# Altium footprint library OSCCC320X250X80L90X100N.PcbLib: 1 footprints
Each footprint in its own frame and in the unit in brackets; x right, y up, seen from the top. Pads: shape width x height; smd on the part's side, far side on the other; paste and mask are expansions set on the pad; w line width, h text height; cw(c..) or ccw(c..) is an arc to the next point about the centre after c.
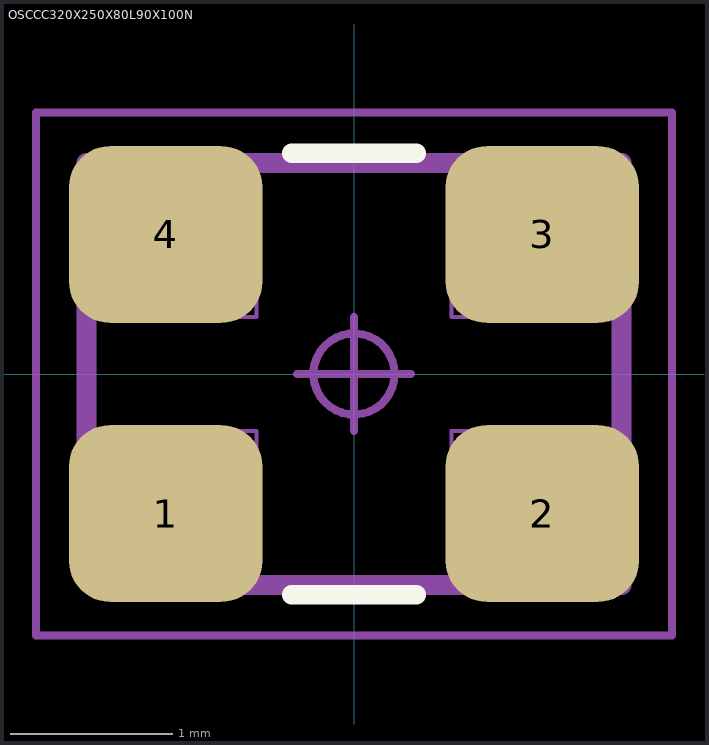
[diagram p0: the footprint, top view; thin cyan lines are the x and y axes]

## OSCCC320X250X80L90X100N [mm] "Oscillator, Corner Concave; 3.20 mm L X 2.50 mm W X 0.80 mm H body"
height 0.8
pads (4):
  rrect46% 1.19x1.09 smd: 1(-1.16,-0.86) 2(1.16,-0.86) 3(1.16,0.86) 4(-1.16,0.86)
Top Overlay:
  lines w0.12: -0.385,-1.36 0.385,-1.36 ; -0.385,1.36 0.385,1.36
Mechanical 3:
  lines w0.12: -1.65,-0.712 -1.65,1.3 1.65,1.3 1.65,-1.3 -1.062,-1.3 -1.65,-0.712
Mechanical 5:
  lines w0.025: -1.6,-1.25 1.6,-1.25 ; -1.6,-1.25 -1.6,1.25 ; -1.6,-1.25 -1.6,-0.35 -0.6,-0.35 -0.6,-1.25 -1.6,-1.25 ; -1.6,1.25 1.6,1.25 ; -1.6,1.25 -0.6,1.25 -0.6,0.35 -1.6,0.35 -1.6,1.25 ; 1.6,-1.25 1.6,1.25 ; 1.6,-1.25 0.6,-1.25 0.6,-0.35 1.6,-0.35 1.6,-1.25 ; 1.6,1.25 1.6,0.35 0.6,0.35 0.6,1.25 1.6,1.25
Mechanical 7:
  circle w0.05: c0,0 r0.25
  lines w0.05: -0.35,0 0.35,0 ; 0,-0.35 0,0.35 ; -1.96,-1.61 1.96,-1.61 1.96,1.61 -1.96,1.61 -1.96,-1.61
Mechanical 9:
  text "'.Designator'" at -5.359,-0.229 h1
3D body: height 0.03, standoff 0, extent -1.956,-1.6 1.956,1.6
3D body "OSCCC320X250X80L90X100.STEP": height 0.8, standoff 0, extent -1.575,-1.225 1.625,1.275
3D body: height 1.04, standoff 0, extent -1.96,-1.61 1.96,1.61